# Altium integrated library SumWkshop.IntLib: 5 symbols
Pins are listed as number, name and electrical type; pins without a type are passive.

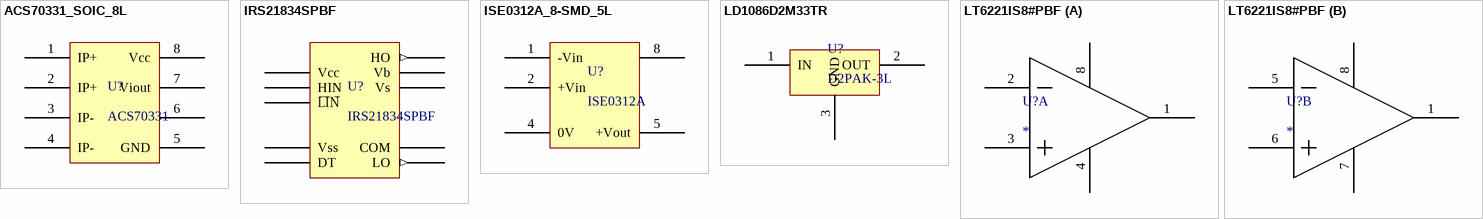
[diagram p0: symbols ACS70331_SOIC_8L to LT6221IS8#PBF]

## ACS70331_SOIC_8L
designator U?, comment ACS70331
1MHz high sensitivity current sensor
footprint ACS70331 (8-SOIC model; 8 leads)
pins: 1 IP+, 2 IP+, 3 IP-, 4 IP-, 5 GND, 6, 7 Viout, 8 Vcc

## IRS21834SPBF
designator U?
IC GATE DRVR HALF-BRIDGE 14SOIC
footprint SOIC127P600X175-14N (SOIC, 14-Leads, Body 8.65x3.90mm, Pitch 1.27mm, IPC Medium Density)
pins: 1 HIN, 2 L̅I̅N̅, 3 Vss (power), 4 DT, 5 COM (power), 6 LO (out), 7 Vcc (power), 11 Vs (power), 12 HO (out), 13 Vb (power)

## ISE0312A_8-SMD_5L
designator U?, comment ISE0312A
3V-12V DC DC converter
footprint ISE0312A (8-SMD model; 5 leads)
pins: 1 -Vin, 2 +Vin, 4 0V, 5 +Vout, 8

## LD1086D2M33TR
designator U?, comment D2PAK-3L
3.3V linear voltage regulator
footprint D2PAK-3L
pins: 1 IN, 2 OUT, 3 GND

## LT6221IS8#PBF
designator U?
footprint SOIC8_NARROW
part A pins: 1, 2, 3, 4, 8
part B pins: 1, 5, 6, 7, 8